# EAGLE library part 10118192-0002LF (library 10118192-0002LF)
USB - micro B USB 2.0 Receptacle Connector 5 Position Surface Mount, Right Angle
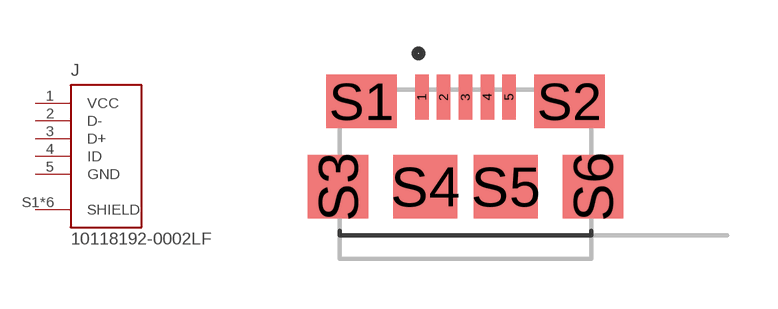
[diagram p0: symbol with the pads of AMPHENOL_10118192-0002LF; footprint AMPHENOL_10118192-0002LF]

Designator prefix J

## 10118192-0002LF (Description: Micro USB 2.0, Input Output Connectors, B TYPE RECEPTACLE without flange; Digi-Key_Part_Number: 609-5379-1-ND; MF: Amphenol ICC (FCI); MP: 10118192-0002LF; Package: None; Purchase-URL: https://pricing.snapeda.com/search/part/10118192-0002LF/?ref=eda)  [AMPHENOL_10118192-0002LF]
1  VCC  pwr
2  D-
3  D+
4  ID
5  GND  pwr
S1  SHIELD  pas
S2  SHIELD  pas
S3  SHIELD  pas
S4  SHIELD  pas
S5  SHIELD  pas
S6  SHIELD  pas

## Footprint AMPHENOL_10118192-0002LF (pad centres in mm)
smd 0.4 x 1.35: 1 -1.3,0; 2 -0.65,0; 3 0,0; 4 0.65,0; 5 1.3,0
smd 2.1 x 1.6: S1 -3.1,-0.125; S2 3.1,-0.125
smd 1.8 x 1.9: S3 -3.8,-2.675; S6 3.8,-2.675
smd 1.9 x 1.9: S4 -1.2,-2.675; S5 1.2,-2.675